# Altium footprint library IC_SMD_DUAL.PCBLIB: 187 footprints (part 10 of 12)
Each footprint in its own frame and in the unit in brackets; x right, y up, seen from the top. Pads: shape width x height; smd on the part's side, far side on the other; paste and mask are expansions set on the pad; w line width, h text height; cw(c..) or ccw(c..) is an arc to the next point about the centre after c.
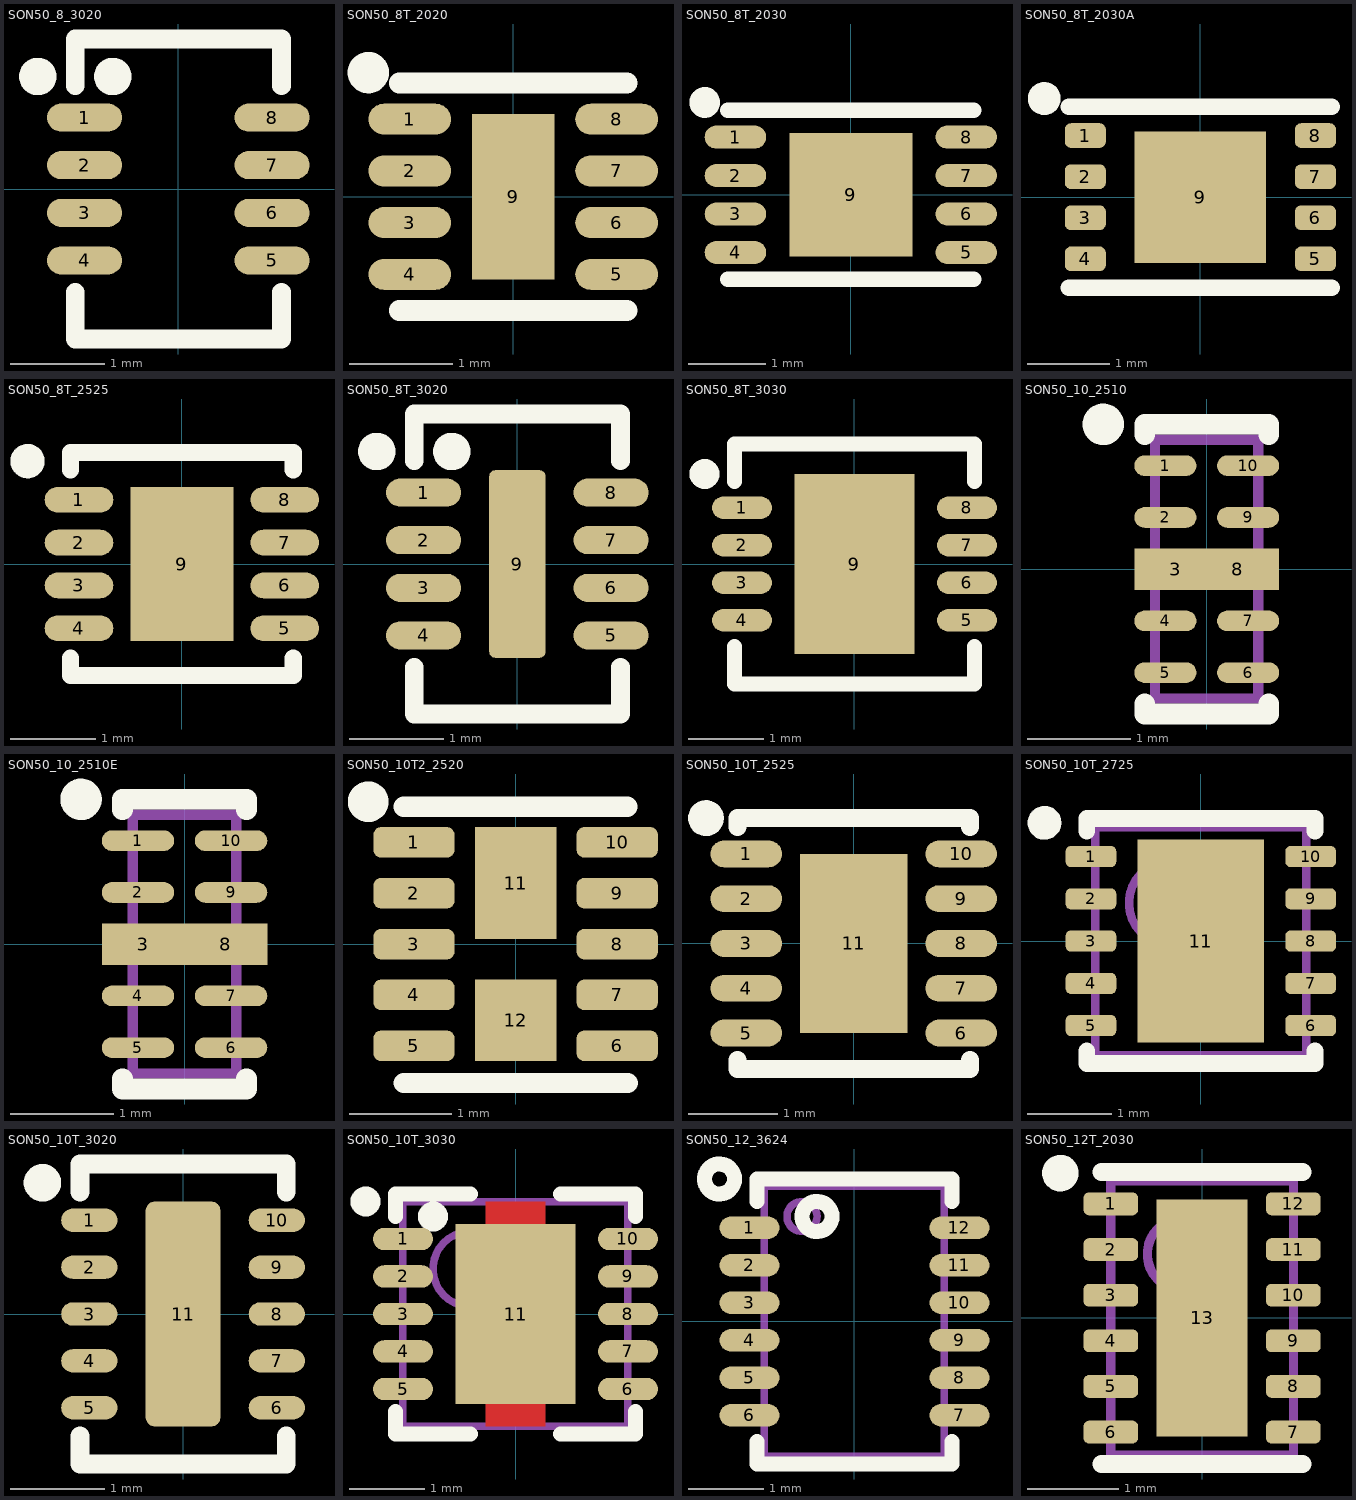
[diagram p9: the footprints below, top view; thin cyan lines are the x and y axes]

## SON50_8_3020 [mm]
height 0.8
pads (8):
  oval 0.8x0.3 smd mask+0.075: 1(-1,0.762) 2(-1,0.254) 3(-1,-0.254) 4(-1,-0.762) 5(1,-0.762) 6(1,-0.254) 7(1,0.254) 8(1,0.762)
TopOverlay:
  circle w0.2: c-0.7,1.2 r0.1
  circle w0.2: c-1.5,1.2 r0.1
  lines w0.2: -1.1,-1.1 -1.1,-1.6 1.1,-1.6 1.1,-1.1 ; -1.1,1.1 -1.1,1.6 1.1,1.6 1.1,1.1
3D body: height 0.8, standoff 0, extent -1,-1.5 1,1.5

## SON50_8T_2020 [mm] "DSG PWSON, DFN2x2-8L, Pitch: 0.5mm 2x2x0.8mm with Thermal pad"
height 0.8
pads (9):
  oval 0.8x0.3 smd mask+0.075: 1(-1,0.75) 2(-1,0.25) 3(-1,-0.25) 4(-1,-0.75) 5(1,-0.75) 6(1,-0.25) 7(1,0.25) 8(1,0.75)
  rect 0.8x1.6 smd paste-0.1 mask+0.075: 9(0,0)
TopOverlay:
  circle w0.2: c-1.4,1.2 r0.1
  lines w0.2: -1.1,-1.1 1.1,-1.1 ; -1.1,1.1 1.1,1.1
3D body "User Library-SON8-2x2mm-1.step": height 0.77, standoff -0.03, extent -1,-1 1,1

## SON50_8T_2030 [mm] "TDFN, UFDFPN8, Pitch: 0.5mm 2x3x0.8mm with Thermal pad"
height 0.8
pads (9):
  oval 0.8x0.3 smd mask+0.075: 1(-1.5,0.75) 2(-1.5,0.25) 3(-1.5,-0.25) 4(-1.5,-0.75) 5(1.5,-0.75) 6(1.5,-0.25) 7(1.5,0.25) 8(1.5,0.75)
  rect 1.6x1.6 smd paste-0.1 mask+0.075: 9(0,0)
TopOverlay:
  circle w0.2: c-1.9,1.2 r0.1
  lines w0.2: -1.6,-1.1 1.6,-1.1 ; -1.6,1.1 1.6,1.1
3D body "User Library-TDFN-8-1.STEP": height 0.8, standoff 0, extent -1.5,-1 1.5,1

## SON50_8T_2030A [mm] "TDFN, UFDFPN8, Pitch: 0.5mm 2x3x0.8mm with Thermal pad"
height 0.8
pads (9):
  rrect50% 0.5x0.3 smd mask+0.075: 1(-1.4,0.75) 2(-1.4,0.25) 3(-1.4,-0.25) 4(-1.4,-0.75) 5(1.4,-0.75) 6(1.4,-0.25) 7(1.4,0.25) 8(1.4,0.75)
  rect 1.6x1.6 smd paste-0.1 mask+0.075: 9(0,0)
TopOverlay:
  circle w0.2: c-1.9,1.2 r0.1
  lines w0.2: -1.6,-1.1 1.6,-1.1 ; -1.6,1.1 1.6,1.1
3D body "User Library-TDFN-8-1.STEP": height 0.8, standoff 0, extent -1.5,-1 1.5,1

## SON50_8T_2525 [mm] "SON, 2.5X2.5X1mm, 0.5mm pitch"
height 1
pads (9):
  oval 0.8x0.3 smd mask+0.05: 1(-1.2,0.75) 2(-1.2,0.25) 3(-1.2,-0.25) 4(-1.2,-0.75) 5(1.2,-0.75) 6(1.2,-0.25) 7(1.2,0.25) 8(1.2,0.75)
  rect 1.2x1.8 smd paste-0.1 mask+0.05: 9(0,0)
TopOverlay:
  circle w0.2: c-1.8,1.2 r0.1
  lines w0.2: -1.3,-1.1 -1.3,-1.3 1.3,-1.3 1.3,-1.1 ; -1.3,1.1 -1.3,1.3 1.3,1.3 1.3,1.1
3D body "SHT31-ARP-B2.5kS.stp": height 1, standoff 0, extent -1.3,-1.25 1.3,1.25

## SON50_8T_3020 [mm] "SON8, CP-8-1 LFCSP_VD, 0.5mm pitch, 2X3X1mm"
height 0.8
pads (9):
  oval 0.8x0.3 smd mask+0.075: 1(-1,0.762) 2(-1,0.254) 3(-1,-0.254) 4(-1,-0.762) 5(1,-0.762) 6(1,-0.254) 7(1,0.254) 8(1,0.762)
  rrect20% 0.6x2 smd paste-0.05: 9(0,0)
TopOverlay:
  circle w0.2: c-0.7,1.2 r0.1
  circle w0.2: c-1.5,1.2 r0.1
  lines w0.2: -1.1,-1.1 -1.1,-1.6 1.1,-1.6 1.1,-1.1 ; -1.1,1.1 -1.1,1.6 1.1,1.6 1.1,1.1
3D body: height 0.8, standoff 0, extent -1,-1.5 1,1.5

## SON50_8T_3030 [mm] "WSON-8, DRG, LFCSP_WD CP-8-21, 3X3mm 0.5mm pitch with Thermal pad"
height 0.8
pads (9):
  oval 0.8x0.3 smd mask+0.075: 1(-1.5,0.75) 2(-1.5,0.25) 3(-1.5,-0.25) 4(-1.5,-0.75) 5(1.5,-0.75) 6(1.5,-0.25) 7(1.5,0.25) 8(1.5,0.75)
  rect 1.6x2.4 smd paste-5 mask+0.075: 9(0,0)
TopOverlay:
  circle w0.2: c-2,1.2 r0.1
  lines w0.2: -1.6,-1.1 -1.6,-1.6 1.6,-1.6 1.6,-1.1 ; -1.6,1.1 -1.6,1.6 1.6,1.6 1.6,1.1
TopPaste:
  rectangle: -0.6,0.2 0.6,1
  rectangle: -0.6,-1 0.6,-0.2
3D body: height 0.1, standoff 0, extent -0.7,-1.2 0.7,1.2
3D body: height 0.2, standoff 0, extent 1.05,0.625 1.55,0.875
3D body: height 0.2, standoff 0, extent 1.05,0.125 1.55,0.375
3D body: height 0.2, standoff 0, extent 1.05,-0.375 1.55,-0.125
3D body: height 0.2, standoff 0, extent 1.05,-0.875 1.55,-0.625
3D body: height 0.2, standoff 0, extent -1.55,-0.875 -1.05,-0.625
3D body: height 0.2, standoff 0, extent -1.55,-0.375 -1.05,-0.125
3D body: height 0.2, standoff 0, extent -1.55,0.125 -1.05,0.375
3D body: height 0.2, standoff 0, extent -1.55,0.625 -1.05,0.875
3D body: height 0.8, standoff 0.05, extent -1.5,-1.5 1.5,1.5

## SON50_10_2510 [mm] "DQA, USON, uDFN-10, MO-229 (JEDEC), SLP2510P8  - 2.5x1.0x0.5mm"
height 0.5
pads (10):
  oval 0.6x0.2 smd mask+0.05: 1(-0.4,1) 2(-0.4,0.5) 4(-0.4,-0.5) 5(-0.4,-1) 6(0.4,-1) 7(0.4,-0.5) 9(0.4,0.5) 10(0.4,1)
  rect 0.8x0.4 smd paste-2 mask+0.05: 3(-0.3,0) 8(0.3,0)
TopOverlay:
  circle w0.2: c-1,1.4 r0.1
  lines w0.2: -0.6,-1.3 -0.6,-1.4 0.6,-1.4 0.6,-1.3 ; -0.6,1.3 -0.6,1.4 0.6,1.4 0.6,1.3
TopPaste:
  rectangle: -0.65,-0.15 -0.15,0.15
  region: 0.65,0.15 0.15,0.15 0.15,-0.15 0.65,-0.15
Mechanical13:
  lines w0.1: -0.5,-1.25 0.5,-1.25 0.5,1.25 -0.5,1.25 -0.5,-1.25
3D body "User Library-UDFN10.STEP": height 0.55, standoff 0, extent -0.505,-1.25 0.505,1.25

## SON50_10_2510E [mm] "DQA, USON, uDFN-10, MO-229 (JEDEC), SLP2510P8  - 2.5x1.0x0.5mm"
height 0.5
pads (10):
  oval 0.7x0.2 smd mask+0.05: 1(-0.45,1) 2(-0.45,0.5) 4(-0.45,-0.5) 5(-0.45,-1) 6(0.45,-1) 7(0.45,-0.5) 9(0.45,0.5) 10(0.45,1)
  rect 0.8x0.4 smd paste-2 mask+0.05: 3(-0.4,0) 8(0.4,0)
TopOverlay:
  circle w0.2: c-1,1.4 r0.1
  lines w0.2: -0.6,-1.3 -0.6,-1.4 0.6,-1.4 0.6,-1.3 ; -0.6,1.3 -0.6,1.4 0.6,1.4 0.6,1.3
TopPaste:
  rectangle: -0.65,-0.15 -0.15,0.15
  region: 0.65,0.15 0.15,0.15 0.15,-0.15 0.65,-0.15
Mechanical13:
  lines w0.1: -0.5,-1.25 0.5,-1.25 0.5,1.25 -0.5,1.25 -0.5,-1.25
3D body "User Library-UDFN10.STEP": height 0.55, standoff 0, extent -0.505,-1.25 0.505,1.25

## SON50_10T2_2520 [mm] "WDFN-10, 2.5X2mm, Pitch: 0.5mm with 2 thermal pad"
height 0.8
pads (12):
  rrect50% 0.8x0.3 smd mask+0.05: 1(-1,1) 2(-1,0.5) 3(-1,0) 4(-1,-0.5) 5(-1,-1) 6(1,-1) 7(1,-0.5) 8(1,0) 9(1,0.5) 10(1,1)
  rect 0.8x1.1 smd paste-0.2 mask+0.075: 11(0,0.6)
  rect 0.8x0.8 smd paste-0.1 mask+0.075: 12(0,-0.75)
TopOverlay:
  circle w0.2: c-1.45,1.4 r0.1
  lines w0.2: -1.1,1.35 1.1,1.35 ; -1.099,-1.365 1.101,-1.365
3D body "SON50_10T_2520XXX.step": height 0.8, standoff 0, extent -1.001,-1.25 1.001,1.25

## SON50_10T_2525 [mm] "DSK SON(TI), DFN2626-10, 2.5X2.5mm, Pitch: 0.5mm with thermal pad"
height 0.8
pads (11):
  oval 0.8x0.3 smd mask+0.075: 1(-1.2,1) 2(-1.2,0.5) 3(-1.2,0) 4(-1.2,-0.5) 5(-1.2,-1) 6(1.2,-1) 7(1.2,-0.5) 8(1.2,0) 9(1.2,0.5) 10(1.2,1)
  rect 1.2x2 smd paste-5 mask+0.075: 11(0,0)
TopOverlay:
  circle w0.2: c-1.65,1.4 r0.1
  lines w0.2: -1.3,-1.3 -1.3,-1.4 1.3,-1.4 1.3,-1.3 ; -1.3,1.3 -1.3,1.4 1.3,1.4 1.3,1.3
TopPaste:
  rectangle: -0.4,0.2 0.4,0.8
  rectangle: -0.4,-0.8 0.4,-0.2
3D body "SON127P600-8N.step": height 0.8, standoff 0, extent -1.251,-1.25 1.251,1.25

## SON50_10T_2725 [mm] "DFN(PLP)2527-10, 0.5mm pitch, 2.7x2.5x0.6mm"
height 0.6
pads (11):
  rrect50% 0.6x0.25 smd mask+0.075: 1(-1.3,1) 2(-1.3,0.5) 3(-1.3,0) 4(-1.3,-0.5) 5(-1.3,-1) 6(1.3,-1) 7(1.3,-0.5) 8(1.3,0) 9(1.3,0.5) 10(1.3,1)
  rect 1.5x2.4 smd paste-5 mask+0.075: 11(0,0)
TopOverlay:
  circle w0.2: c-1.85,1.4 r0.1
  lines w0.2: -1.35,-1.3 -1.35,-1.45 1.35,-1.45 1.35,-1.3 ; -1.35,1.3 -1.35,1.45 1.35,1.45 1.35,1.3
TopPaste:
  rectangle: -0.6,0.2 0.6,1
  rectangle: -0.6,-1 0.6,-0.2
Mechanical13:
  circle w0.1: c-0.35,0.45 r0.5
  lines w0.1: -1.25,-1.35 1.25,-1.35 1.25,1.35 -1.25,1.35 -1.25,-1.35
3D body "SON50_10T_2725.step": height 0.6, standoff 0, extent -1.251,-1.35 1.251,1.35

## SON50_10T_3020 [mm] "DQC, PWSON-N10, Pitch: 0.5mm, 2X3mm"
pads (11):
  oval 0.6x0.25 smd mask+0.07: 1(-1,1) 2(-1,0.5) 3(-1,0) 4(-1,-0.5) 5(-1,-1) 6(1,-1) 7(1,-0.5) 8(1,0) 9(1,0.5) 10(1,1)
  rrect25% 0.8x2.4 smd paste-5 mask+0.07: 11(0,0)
TopOverlay:
  circle w0.2: c-1.5,1.4 r0.1
  lines w0.2: -1.1,-1.3 -1.1,-1.6 1.1,-1.6 1.1,-1.3 ; -1.1,1.3 -1.1,1.6 1.1,1.6 1.1,1.3
TopPaste:
  rectangle: -0.3,0.2 0.3,1
  rectangle: -0.3,-1 0.3,-0.2
3D body: height 0.8, standoff 0, extent -1,-1.5 1,1.5

## SON50_10T_3030 [mm] "DRC SON, LFCSP CP-10-9, 10 TDFN, 3X3mm, Pitch: 0.5mm with thermal pad"
height 0.8
pads (11):
  oval 0.8x0.3 smd mask+0.075: 1(-1.5,1) 2(-1.5,0.5) 3(-1.5,0) 4(-1.5,-0.5) 5(-1.5,-1) 6(1.5,-1) 7(1.5,-0.5) 8(1.5,0) 9(1.5,0.5) 10(1.5,1)
  rect 1.6x2.4 smd paste-5 mask+0.1: 11(0,0)
TopLayer:
  rectangle: -0.4,-1.5 0.4,1.5
TopOverlay:
  circle w0.2: c-2,1.5 r0.1
  circle w0.2: c-1.1,1.3 r0.1
  lines w0.2: -1.6,-1.3 -1.6,-1.6 -0.6,-1.6 ; -1.6,1.3 -1.6,1.6 -0.6,1.6 ; 0.6,-1.6 1.6,-1.6 1.6,-1.3 ; 0.6,1.6 1.6,1.6 1.6,1.3
TopPaste:
  rectangle: -0.6,0.2 0.6,1
  rectangle: -0.6,-1 0.6,-0.2
TopSolder:
  rectangle: -0.5,-1.6 0.5,1.6
Mechanical13:
  circle w0.1: c-0.6,0.6 r0.5
  lines w0.1: -1.5,-1.5 1.5,-1.5 1.5,1.5 -1.5,1.5 -1.5,-1.5
3D body: height 0.8, standoff 0, extent -1.5,-1.5 1.5,1.5

## SON50_12_3624 [mm] "SOJ, 12-Leads, Body 3.6x2.4mm, Pitch 0.50mm"
height 1.2
pads (12):
  oval 0.8x0.3 smd: 1(-1.4,1.25) 2(-1.4,0.75) 3(-1.4,0.25) 4(-1.4,-0.25) 5(-1.4,-0.75) 6(-1.4,-1.25) 7(1.4,-1.25) 8(1.4,-0.75) 9(1.4,-0.25) 10(1.4,0.25) 11(1.4,0.75) 12(1.4,1.25)
TopOverlay:
  circle w0.2: c-0.5,1.4 r0.2
  circle w0.2: c-1.8,1.9 r0.2
  lines w0.2: -1.3,-1.6 -1.3,-1.9 1.3,-1.9 1.3,-1.6 ; -1.3,1.6 -1.3,1.9 1.3,1.9 1.3,1.6
Mechanical13:
  circle w0.1: c-0.7,1.4 r0.2
  lines w0.1: -1.2,-1.8 -1.2,1.8 1.2,1.8 1.2,-1.8 -1.2,-1.8
3D body: height 1.2, standoff 0, extent -1.2,-1.8 1.2,1.8

## SON50_12T_2030 [mm] "WSON, 12-Leads, DSS, Body 3X2mm, Pitch 0.50mm"
height 0.8
pads (13):
  rrect50% 0.6x0.25 smd mask+0.075: 1(-1,1.25) 2(-1,0.75) 3(-1,0.25) 4(-1,-0.25) 5(-1,-0.75) 6(-1,-1.25) 7(1,-1.25) 8(1,-0.75) 9(1,-0.25) 10(1,0.25) 11(1,0.75) 12(1,1.25)
  rect 1x2.6 smd paste-5 mask+0.075: 13(0,0)
TopOverlay:
  circle w0.2: c-1.552,1.587 r0.1
  lines w0.2: -1.1,-1.6 1.1,-1.6 ; -1.1,1.6 1.1,1.6
TopPaste:
  rectangle: -0.4,0.2 0.4,1.1
  rectangle: -0.4,-1.1 0.4,-0.2
Mechanical13:
  circle w0.1: c-0.2,0.7 r0.4
  lines w0.1: -1,-1.5 -1,1.5 1,1.5 1,-1.5 -1,-1.5
3D body "SON50_12T_2030.step": height 0.8, standoff 0, extent -1.001,-1.5 1.001,1.5